# EAGLE library part HEX_CONVERTER (library LM4880)
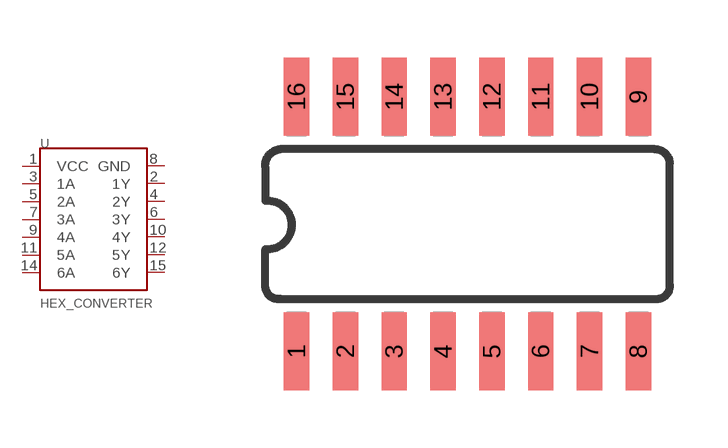
[diagram p288: symbol with the pads of SO016; footprint SO016]

Designator prefix U

## HEX_CONVERTER  [SO016]
1  VCC
2  1Y
3  1A
4  2Y
5  2A
6  3Y
7  3A
8  GND
9  4A
10  4Y
11  5A
12  5Y
14  6A
15  6Y

## Footprint SO016 (pad centres in mm)
smd 0.66 x 2.032: 1 -4.445,-3.315; 2 -3.175,-3.315; 3 -1.905,-3.315; 4 -0.635,-3.315; 5 0.635,-3.315; 6 1.905,-3.315; 7 3.175,-3.315; 8 4.445,-3.315; 9 4.445,3.315; 10 3.175,3.315; 11 1.905,3.315; 12 0.635,3.315; 13 -0.635,3.315; 14 -1.905,3.315; 15 -3.175,3.315; 16 -4.445,3.315